# Altium integrated library TT_IntLib.IntLib: 57 symbols (part 1 of 2)
Pins are listed as number, name and electrical type; pins without a type are passive.

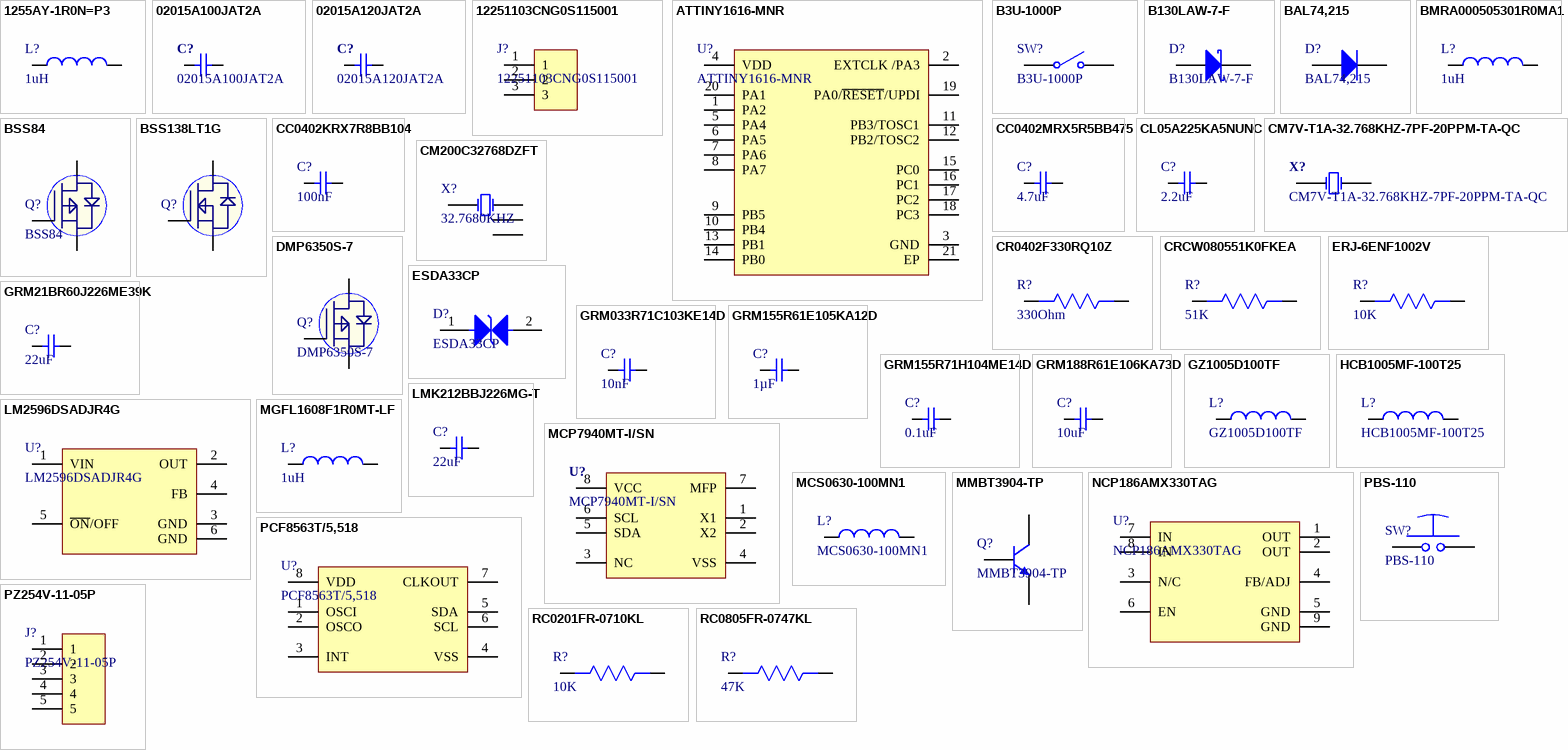
[diagram p0: symbols 1255AY-1R0N=P3 to RC0805FR-0747KL]

## 1255AY-1R0N=P3
designator L?, comment 1uH
FIXED IND 1UH 6.5A 10 MOHM SMD; Manufacturer: Murata; Manufacturer Part Number: 1255AY-1R0N=P3; Core Material: Ferrite; Current Rating: 9.5A; Shielding: Shielded; DC Resistance (DCR): 12mR; Test Frequency: 100kHz; Tolerance: 30%; Supplier 1: Digi-Key; RoHS: Yes; Category: Fixed Inductors; Stock 1: 492; Pricing 1: 1=0.42000, 10=0.36800, 25=0.34120, 50=0.28880, 100=0.26250, 250=0.24676, 500=0.22050 (USD); Mount: Surface Mount; Case/Package: Nonstandard; Packaging: Tape and Reel; Resistor Type: Wirewound; Inductance: 1uH; Max DC Current: 6.5A; Length: 0.248inch; Width: 0.248inch; Height - Seated (Max): 0.177inch; RoHS Compliant: Yes; ComponentLink1URL: http://www.farnell.com/datasheets/2616880.pdf?src-supplier=Farnell; ComponentLink1Description: http://www.farnell.com/datasheets/2616880.pdf?src-supplier=Farnell; ComponentLink2URL: http://search.murata.co.jp/Ceramy/image/img/P02/J(E)TE243B-0037_DG6045C_reference.pdf?src-supplier=Digi-Key; ComponentLink2Description: http://search.murata.co.jp/Ceramy/image/img/P02/J(E)TE243B-0037_DG6045C_reference.pdf?src-supplier=Digi-Key; ComponentLink3URL: http://www.toko.co.jp/products/pdf/inductors/dg6045c.pdf?src-supplier=Digi-Key; ComponentLink3Description: http://www.toko.co.jp/products/pdf/inductors/dg6045c.pdf?src-supplier=Digi-Key; ComponentLink4URL: http://www.toko.co.jp/products/pdf/inductors/dg6045c.pdf?src-supplier=Avnet; ComponentLink4Description: http://www.toko.co.jp/products/pdf/inductors/dg6045c.pdf?src-supplier=Avnet; Supplier Part Number 1: 490-10803-1-ND
footprint 1255AY-1R0N=P3 (FIXED IND 1UH 6.5A 10 MOHM SMD)
pins: 1, 2

## 02015A100JAT2A
designator C?
CAP CER 10PF 50V C0G/NP0 0201; Manufacturer: Kyocera AVX; Tolerance: 5%; Dielectric: C0G; Supplier 1: Digi-Key; Manufacturer Part Number: 02015A100JAT2A; Stock 1: 120846; Pricing 1: 1=0.1, 10=0.036, 50=0.0198, 100=0.0162, 500=0.01156, 1000=0.00908, 2500=0.00825, 5000=0.00759 (USD); Case/Package: 0201; Case Code (Imperial): 0201; Case Code (Metric): 0603; Min Operating Temperature: -55°C; Max Operating Temperature: 125°C; Capacitance: 10pF; Package Quantity: 15000; Voltage Rating (DC): 50V; Packaging: Tape and Reel; Termination: SMD/SMT; Length: 0.6mm; Width: 0.3mm; Height: 0.33mm; Depth: 0.3mm; ComponentLink1URL: http://www.mouser.com/ds/2/40/C0GNP0-Dielectric-951274.pdf?src-supplier=Mouser; ComponentLink1Description: http://www.mouser.com/ds/2/40/C0GNP0-Dielectric-951274.pdf?src-supplier=Mouser; Supplier Part Number 1: 478-13003-6-ND
footprint CAP 0201
pins: 1, 2

## 02015A120JAT2A
designator C?
CAP CER 12PF 50V C0G/NP0 0201; Manufacturer: Kyocera AVX; Tolerance: 5%; Dielectric: C0G; Supplier 1: Digi-Key; Manufacturer Part Number: 02015A120JAT2A; Stock 1: 53470; Pricing 1: 1=0.1, 10=0.036, 50=0.0198, 100=0.0162, 500=0.01156, 1000=0.00908, 2500=0.00825, 5000=0.00759 (USD); Case/Package: 0201; Min Operating Temperature: -55°C; Max Operating Temperature: 125°C; Capacitance: 12pF; Packaging: Tape and Reel; Package Quantity: 15000; Voltage Rating (DC): 50V; Length: 0.6mm; Depth: 0.3mm; ComponentLink1URL: http://www.mouser.com/ds/2/40/C0GNP0-Dielectric-951274.pdf?src-supplier=Mouser; ComponentLink1Description: http://www.mouser.com/ds/2/40/C0GNP0-Dielectric-951274.pdf?src-supplier=Mouser; ComponentLink2URL: http://components.arrow.com/part/dataview/0323_01156022?src-supplier=Arrow+Europe; ComponentLink2Description: http://components.arrow.com/part/dataview/0323_01156022?src-supplier=Arrow+Europe; Supplier Part Number 1: 478-13005-6-ND
footprint CAP 0201
pins: 1, 2

## 12251103CNG0S115001
designator J?
Pin Header 3 1 right-angle; Manufacturer: JILN; Package: Through Hole,P=2.54mm; Connector Type: Pin Header; Number of Pins: 3; Type: right-angle，180degrees; Contact Material: Brass
footprint 12251103CNG0S115001 (Pin Header 3 1 right-angle)
pins: 1, 2, 3

## ATTINY1616-MNR
designator U?
Microchip ATTINY1616-MNR, 8bit AVR Microcontroller, 20MHz, 16 kB Flash, 20-Pin VQFN; Interface: I2C,SPI,IrDA,UART,USART; Peripherals: Brown-out Detect/Reset,POR,PWM,WDT; Number of I/Os: 18; Memory Size: 16KB; Oscillator Type: Internal; Supplier 1: Digi-Key; Manufacturer: Microchip; Manufacturer Part Number: ATTINY1616-MNR; RoHS: No; Category: Microcontrollers; Stock 1: 3963; Pricing 1: 1=0.75000, 25=0.69000, 100=0.62000 (USD); Case/Package: VQFN; Min Operating Temperature: -40°C; Max Operating Temperature: 105°C; Memory Type: FLASH; Packaging: Cut Tape; Core Architecture: AVR; Frequency: 20MHz; ComponentLink1URL: http://www.microchip.com/mymicrochip/filehandler.aspx?ddocname=en606269&src-supplier=Digi-Key; ComponentLink1Description: http://www.microchip.com/mymicrochip/filehandler.aspx?ddocname=en606269&src-supplier=Digi-Key; Supplier Part Number 1: ATTINY1616-MNRCT-ND
footprint 20-QFN (IC MCU 8BIT 16KB FLASH 20VQFN)
pins: 1 PA2, 2 EXTCLK /PA3, 3 GND, 4 VDD, 5 PA4, 6 PA5, 7 PA6, 8 PA7, 9 PB5, 10 PB4, 11 PB3/TOSC1, 12 PB2/TOSC2, 13 PB1, 14 PB0, 15 PC0, 16 PC1, 17 PC2, 18 PC3, 19 PA0/~{RESET}/UPDI, 20 PA1, 21 EP

## B3U-1000P
designator SW?
SWITCH TACTILE SPST-NO 0.05A 12V; Manufacturer: Omron; Mechanical Life: 200000Cycles; Operating Force: 1.5N; Throw Configuration: SPST; Current Rating: 50mA; Contact Resistance: 100mR; Illumination Type: Non-Illuminated,Illuminated; Switch Travel: 0.15mm; Switch Function: Off-Mom; Actuator Type: Standard; Actuator Length: 0.4mm; Ratings: Dust Proof,IP40; ComponentLink1URL: http://www.farnell.com/datasheets/60838.pdf?src-supplier=Farnell; ComponentLink1Description: http://www.farnell.com/datasheets/60838.pdf?src-supplier=Farnell; ComponentLink2URL: http://www.farnell.com/datasheets/60838.pdf?src-supplier=Element14; ComponentLink2Description: http://www.farnell.com/datasheets/60838.pdf?src-supplier=Element14; ComponentLink3URL: https://omronfs.omron.com/en_US/ecb/products/pdf/en-b3u.pdf?src-supplier=Digi-Key; ComponentLink3Description: https://omronfs.omron.com/en_US/ecb/products/pdf/en-b3u.pdf?src-supplier=Digi-Key; ComponentLink4URL: http://www.omron.com/ecb/products/pdf/en-b3u.pdf?src-supplier=Digi-Key; ComponentLink4Description: http://www.omron.com/ecb/products/pdf/en-b3u.pdf?src-supplier=Digi-Key; ComponentLink5URL: https://www.distrelec.biz/Web/Downloads/he/et/B3U_eng_datasheet.pdf?mime=application%2Fpdf&src-supplier=Distrelec; ComponentLink5Description: https://www.distrelec.biz/Web/Downloads/he/et/B3U_eng_datasheet.pdf?mime=application%2Fpdf&src-supplier=Distrelec; ComponentLink6URL: http://www.onlinecomponents.com/productFiles/mf-OM/en-b3u.pdf?src-supplier=Onlinecomponents.com; ComponentLink6Description: http://www.onlinecomponents.com/productFiles/mf-OM/en-b3u.pdf?src-supplier=Onlinecomponents.com; Supplier 1: Digi-Key; Manufacturer Part Number: B3U-1000P; Stock 1: 116454; Pricing 1: 1=1, 10=0.961, 25=0.9064, 50=0.7976, 100=0.7251, 250=0.68888, 500=0.67074, 1000=0.52571 (USD); Mount: Surface Mount; Weight: 0.000776oz; Contact Material: Silver; Min Operating Temperature: -25°C; Max Operating Temperature: 70°C; Packaging: Tape and Reel; Voltage Rating (DC): 12V; Package Quantity: 1; Max Current Rating: 50mA; Termination: SMD/SMT; Orientation: Straight; Max Voltage Rating (DC): 12V; Electrical Life: 200000Cycles; Insulation Resistance: 100MR; Contact Current Rating: 50mA; Length: 4mm; Height: 1.2mm; Depth: 2.5mm; Width: 3mm; REACH SVHC: Unknown; Lead Free: Lead Free; ComponentLink7URL: https://www.verical.com/server-webapp/html/getDatasheet?partID=552554&src-supplier=Verical; ComponentLink7Description: https://www.verical.com/server-webapp/html/getDatasheet?partID=552554&src-supplier=Verical; ComponentLink8URL: http://www.farnell.com/datasheets/1685550.pdf?src-supplier=Element14; ComponentLink8Description: http://www.farnell.com/datasheets/1685550.pdf?src-supplier=Element14; ComponentLink9URL: http://www.farnell.com/datasheets/2610940.pdf?src-supplier=Farnell; ComponentLink9Description: http://www.farnell.com/datasheets/2610940.pdf?src-supplier=Farnell; ComponentLink10URL: https://www.alliedelec.com/m/d/4c8a9ef82804fc3c241a13c1e298fd73.pdf?src-supplier=Allied+Electronics; ComponentLink10Description: https://www.alliedelec.com/m/d/4c8a9ef82804fc3c241a13c1e298fd73.pdf?src-supplier=Allied+Electronics; Supplier Part Number 1: SW1020DKR-ND
footprint B3U-1000P (SWITCH TACTILE SPST-NO 0.05A 12V)
pins: 1, 2

## B130LAW-7-F
designator D?
Diode Schottky 30V 1A 2-Pin SOD-123 T/R; Manufacturer: Diodes; Max Reverse Current: 1mA; Peak Non-Repetitive Surge Current: 12A; Element Configuration: Single; Forward Voltage: 420mV; Polarity: Standard; Capacitance: 40pF; Supplier 1: Digi-Key; Manufacturer Part Number: B130LAW-7-F; RoHS: Yes; Category: Schottky Diodes; Stock 1: 59409; Pricing 1: 1=0.48000, 10=0.33900, 100=0.17110, 500=0.15164, 1000=0.11800 (USD); Mount: Surface Mount; Number of Pins: 2; Weight: 0.000353oz; Contact Plating: Tin,Matte; Min Operating Temperature: -55°C; Max Operating Temperature: 125°C; Forward Current: 1A; Max Repetitive Reverse Voltage (Vrrm): 30V; Package Quantity: 3000; Packaging: Tape and Reel; Average Rectified Current: 1A; Max Forward Surge Current (Ifsm): 12A; Termination: SMD/SMT; Voltage Rating (DC): 30V; Current Rating: 1A; Output Current: 1A; Max Reverse Voltage (DC): 30V; Length: 2.85mm; Width: 1.7mm; Height: 1.25mm; Radiation Hardening: No; REACH SVHC: No SVHC; Lead Free: Lead Free; ComponentLink1URL: https://datasheet.ciiva.com/913/ds30308-913553.pdf?src-supplier=Digi-Key; ComponentLink1Description: https://datasheet.ciiva.com/913/ds30308-913553.pdf?src-supplier=Digi-Key; ComponentLink2URL: https://datasheet.ciiva.com/34302/1538689-34302354.pdf?src-supplier=Jameco; ComponentLink2Description: https://datasheet.ciiva.com/34302/1538689-34302354.pdf?src-supplier=Jameco; ComponentLink3URL: https://datasheet.ciiva.com/4715/ds30308-79347-4715540.pdf?src-supplier=Mouser; ComponentLink3Description: https://datasheet.ciiva.com/4715/ds30308-79347-4715540.pdf?src-supplier=Mouser; ComponentLink4URL: https://datasheet.ciiva.com/26788/b130law-7-f-26788586.pdf?src-supplier=IIIC; ComponentLink4Description: https://datasheet.ciiva.com/26788/b130law-7-f-26788586.pdf?src-supplier=IIIC; ComponentLink5URL: https://datasheet.ciiva.com/913/ds30308-913554.pdf?src-supplier=Digi-Key; ComponentLink5Description: https://datasheet.ciiva.com/913/ds30308-913554.pdf?src-supplier=Digi-Key; ComponentLink6URL: https://datasheet.ciiva.com/913/ds30308-913555.pdf?src-supplier=Digi-Key; ComponentLink6Description: https://datasheet.ciiva.com/913/ds30308-913555.pdf?src-supplier=Digi-Key; ComponentLink7URL: https://datasheet.ciiva.com/1177/ds30308-1177411.pdf?src-supplier=Element14; ComponentLink7Description: https://datasheet.ciiva.com/1177/ds30308-1177411.pdf?src-supplier=Element14; ComponentLink8URL: https://datasheet.ciiva.com/8300/ds30308-8300503.pdf?src-supplier=Avnet; ComponentLink8Description: https://datasheet.ciiva.com/8300/ds30308-8300503.pdf?src-supplier=Avnet; ComponentLink9URL: https://datasheet.ciiva.com/22695/887879-22695783.pdf?src-supplier=Element14; ComponentLink9Description: https://datasheet.ciiva.com/22695/887879-22695783.pdf?src-supplier=Element14; ComponentLink10URL: https://datasheet.ciiva.com/16563/ds30308-16563624.pdf?src-supplier=Avnet+Europe; ComponentLink10Description: https://datasheet.ciiva.com/16563/ds30308-16563624.pdf?src-supplier=Avnet+Europe; ComponentLink11URL: https://datasheet.ciiva.com/8303/ds30308-8303245.pdf?src-supplier=Avnet; ComponentLink11Description: https://datasheet.ciiva.com/8303/ds30308-8303245.pdf?src-supplier=Avnet; Supplier Part Number 1: B130LAW-FDICT-ND
footprint SOD123 (30V 1A 420mV @ 1A SOD-123)
pins: 1 K, 2 A

## BAL74,215
designator D?
DIODE GEN PURP 50V 215MA SOT23; Manufacturer: NXP Semiconductors; Manufacturer Part Number: BAL74215; Element Configuration: Single; Forward Current: 150mA; Max Reverse Current: 100nA; Reverse Recovery Time: 4ns; Peak Non-Repetitive Surge Current: 4A; Forward Voltage: 1.25V; Supplier 1: Newark; RoHS: Yes; Category: Rectifier Diodes; Mount: Surface Mount; Case/Package: TO-236-3; Number of Pins: 3; Contact Plating: Tin; Min Operating Temperature: -65°C; Max Operating Temperature: 150°C; Max Repetitive Reverse Voltage (Vrrm): 50V; Packaging: Tape and Reel; Max Surge Current: 4A; Recovery Time: 4ns; Package Quantity: 1; Max Reverse Leakage Current: 100nA; Average Rectified Current: 215mA; Max Forward Surge Current (Ifsm): 4A; Termination: SMD/SMT; Max Reverse Voltage (DC): 50V; Radiation Hardening: No; REACH SVHC: No SVHC; Lead Free: Lead Free; ComponentLink1URL: https://datasheet.ciiva.com/8299/bal74-8299264.pdf?src-supplier=Avnet; ComponentLink1Description: https://datasheet.ciiva.com/8299/bal74-8299264.pdf?src-supplier=Avnet; ComponentLink2URL: https://datasheet.ciiva.com/1179/453930-1179601.pdf?src-supplier=Element14; ComponentLink2Description: https://datasheet.ciiva.com/1179/453930-1179601.pdf?src-supplier=Element14; ComponentLink3URL: https://datasheet.ciiva.com/4434/bal74-109975-4434835.pdf?src-supplier=Mouser; ComponentLink3Description: https://datasheet.ciiva.com/4434/bal74-109975-4434835.pdf?src-supplier=Mouser; ComponentLink4URL: https://datasheet.ciiva.com/25953/bal74-25953738.pdf?src-supplier=Avnet+Europe; ComponentLink4Description: https://datasheet.ciiva.com/25953/bal74-25953738.pdf?src-supplier=Avnet+Europe; ComponentLink5URL: https://datasheet.ciiva.com/912/bal74-912156.pdf?src-supplier=Digi-Key; ComponentLink5Description: https://datasheet.ciiva.com/912/bal74-912156.pdf?src-supplier=Digi-Key; ComponentLink6URL: https://datasheet.ciiva.com/1202/453930-1202220.pdf?src-supplier=Farnell; ComponentLink6Description: https://datasheet.ciiva.com/1202/453930-1202220.pdf?src-supplier=Farnell; ComponentLink7URL: https://datasheet.ciiva.com/912/bal74-912157.pdf?src-supplier=Digi-Key; ComponentLink7Description: https://datasheet.ciiva.com/912/bal74-912157.pdf?src-supplier=Digi-Key; ComponentLink8URL: https://datasheet.ciiva.com/1202/453930-1202221.pdf?src-supplier=Farnell; ComponentLink8Description: https://datasheet.ciiva.com/1202/453930-1202221.pdf?src-supplier=Farnell; ComponentLink9URL: https://datasheet.ciiva.com/912/bal74-912158.pdf?src-supplier=Digi-Key; ComponentLink9Description: https://datasheet.ciiva.com/912/bal74-912158.pdf?src-supplier=Digi-Key; Supplier Part Number 1: 75R4923
footprint SOT23-3 (SOT23, 3-Leads, Body 2.9x1.3mm, Pitch 0.95mm, Lead Span 2.3mm - Reverse Pinning, IPC High Density)
pins: 1 K, 2 A

## BMRA000505301R0MA1
designator L?, comment 1uH
FIXED IND 1UH 7A 15 MOHM SMD; Manufacturer: Chilisin; Manufacturer Part Number: BMRA000505301R0MA1; Supplier 1: Digi-Key; RoHS: Yes; Supplier Part Number 1: 2184-BMRA000505301R0MA1CT-ND
footprint BMRA000505301R0MA1 (FIXED IND 1UH 7A 15 MOHM SMD)
pins: 1, 2

## BSS84
designator Q?
P-Channel -60V 300mA 2.5V @ 250uA 6Ω @ 0.2A,10V 350mW SOT-23 MOSFET RoHS; Manufacturer: HUASHUO; Package: SOT-23; FET Type: P-Channel; Drain to Source Voltage(Vdss): -60V; Continuous Drain Current (Id) @ 25°C: 300mA; Vgs(th) (Max) @ Id: 2.5V @ 250uA; Rds On (Max) @ Id, Vgs: 6Ω @ 0.2A,10V; Power Dissipation-Max (Ta=25°C): 350mW
footprint SOT23-3 (SOT23, 3-Leads, Body 2.9x1.3mm, Pitch 0.95mm, Lead Span 2.3mm - Reverse Pinning, IPC High Density)
pins: 1 G, 2 S, 3 D

## BSS138LT1G
designator Q?  (value not drawn)
MOSFET N-CH 50V 200MA SOT-23; Manufacturer: ON Semiconductor; Gate to Source Voltage (Vgs): 20V; Nominal Vgs: 1.5V; Rds On Max: 3.5R; Input Capacitance: 50pF; Number of Elements: 1; Max Power Dissipation: 225mW; Turn-Off Delay Time: 20ns; Element Configuration: Single; ComponentLink1URL: https://datasheet.ciiva.com/22641/1596366-22641636.pdf; ComponentLink1Description: https://datasheet.ciiva.com/22641/1596366-22641636.pdf; ComponentLink2URL: https://datasheet.ciiva.com/1190/1596366-1190137.pdf; ComponentLink2Description: https://datasheet.ciiva.com/1190/1596366-1190137.pdf; ComponentLink3URL: https://datasheet.ciiva.com/15198/getdatasheetpartid-110266-15198908.pdf; ComponentLink3Description: https://datasheet.ciiva.com/15198/getdatasheetpartid-110266-15198908.pdf; ComponentLink4URL: https://datasheet.ciiva.com/8115/bss138lt1-d-8115295.pdf; ComponentLink4Description: https://datasheet.ciiva.com/8115/bss138lt1-d-8115295.pdf; ComponentLink5URL: https://datasheet.ciiva.com/8115/bss138lt1-d-8115358.pdf; ComponentLink5Description: https://datasheet.ciiva.com/8115/bss138lt1-d-8115358.pdf; ComponentLink6URL: https://datasheet.ciiva.com/1190/1596366-1190136.pdf; ComponentLink6Description: https://datasheet.ciiva.com/1190/1596366-1190136.pdf; ComponentLink7URL: https://datasheet.ciiva.com/936/bss138lt1-d-936802.pdf; ComponentLink7Description: https://datasheet.ciiva.com/936/bss138lt1-d-936802.pdf; ComponentLink8URL: https://datasheet.ciiva.com/936/bss138lt1-d-936801.pdf; ComponentLink8Description: https://datasheet.ciiva.com/936/bss138lt1-d-936801.pdf; ComponentLink9URL: https://datasheet.ciiva.com/14553/70099493-14553829.pdf; ComponentLink9Description: https://datasheet.ciiva.com/14553/70099493-14553829.pdf; ComponentLink10URL: https://datasheet.ciiva.com/936/bss138lt1-d-936803.pdf; ComponentLink10Description: https://datasheet.ciiva.com/936/bss138lt1-d-936803.pdf; Supplier 1: Digi-Key; Manufacturer Part Number: BSS138LT1G; Stock 1: 1283212; Pricing 1: 1=0.27, 10=0.222, 100=0.1177, 500=0.07746, 1000=0.05267 (USD); Case/Package: SOT-23-3; Number of Pins: 3; Contact Plating: Tin,Matte; Min Operating Temperature: -55°C; Max Operating Temperature: 150°C; Continuous Drain Current (ID): 200mA; Package Quantity: 1; Packaging: Tape and Reel; Drain to Source Breakdown Voltage: 50V; Power Dissipation: 225mW; Drain to Source Resistance: 3.5R; Threshold Voltage: 1.5V; Turn-On Delay Time: 20ns; Voltage Rating (DC): 50V; Current Rating: 200mA; On-State Resistance: 3.5R; Length: 3.04mm; Height: 1.01mm; Width: 1.4mm; Radiation Hardening: No; REACH SVHC: No SVHC; Lead Free: Lead Free; Halogen Free: Halogen Free; ComponentLink11URL: http://www.onsemi.com/pub/Collateral/BSS138LT1-D.PDF?src-supplier=Digi-Key; ComponentLink11Description: http://www.onsemi.com/pub/Collateral/BSS138LT1-D.PDF?src-supplier=Digi-Key; ComponentLink12URL: http://www.farnell.com/datasheets/1596366.pdf?src-supplier=Element14; ComponentLink12Description: http://www.farnell.com/datasheets/1596366.pdf?src-supplier=Element14; ComponentLink13URL: http://www.alliedelec.com/m/d/b3c6fd7d92596813fe75d33dcbaaae90.pdf?src-supplier=Allied+Electronics; ComponentLink13Description: http://www.alliedelec.com/m/d/b3c6fd7d92596813fe75d33dcbaaae90.pdf?src-supplier=Allied+Electronics; ComponentLink14URL: https://www.verical.com/server-webapp/html/getDatasheet?partID=110266&src-supplier=Verical; ComponentLink14Description: https://www.verical.com/server-webapp/html/getDatasheet?partID=110266&src-supplier=Verical; ComponentLink15URL: http://www.onsemi.com/pub_link/Collateral/BSS138LT1-D.PDF?src-supplier=Avnet; ComponentLink15Description: http://www.onsemi.com/pub_link/Collateral/BSS138LT1-D.PDF?src-supplier=Avnet; Supplier Part Number 1: BSS138LT1GOSDKR-ND
footprint SOT23-3 (SOT23, 3-Leads, Body 2.9x1.3mm, Pitch 0.95mm, Lead Span 2.3mm - Reverse Pinning, IPC High Density)
pins: 1 G, 2 S, 3 D

## CC0402KRX7R8BB104
designator C?, comment 100nF
Cap Ceramic 0.1uF 25V X7R 10% SMD 0402 125C Paper T/R; Manufacturer: Yageo; Manufacturer Part Number: CC0402KRX7R8BB104; Dissipation Factor: 3.5%; Supplier 1: Digi-Key; RoHS: Yes; Category: Ceramic Capacitors; Stock 1: 1841009; Pricing 1: 1=0.10000, 10=0.03100, 50=0.01700, 100=0.01390, 500=0.00990, 1000=0.00777, 2500=0.00707, 5000=0.00650 (USD); Mount: Surface Mount; Case/Package: 0402; Case Code (Imperial): 0402; Case Code (Metric): 1005; Min Operating Temperature: -55°C; Max Operating Temperature: 125°C; Tolerance: 10%; Capacitance: 100nF; Dielectric: X7R; Voltage Rating: 25V; Voltage Rating (DC): 25V; Packaging: Tape and Reel; Termination: SMD/SMT; Resistor Type: Ceramic; Length: 1mm; Width: 0.02inch; Height: 0.5mm; Thickness: 0.022inch; Depth: 0.5mm; Radiation Hardening: No; Lead Free: Lead Free; Halogen Free: Halogen Free; ComponentLink1URL: https://datasheet.ciiva.com/11464/upy-gphc-x7r-6-3v-to-50v-8-11464889.pdf?src-supplier=Avnet; ComponentLink1Description: https://datasheet.ciiva.com/11464/upy-gphc-x7r-6-3v-to-50v-8-11464889.pdf?src-supplier=Avnet; ComponentLink2URL: https://datasheet.ciiva.com/13210/upy-gphc-x7r-6-3v-to-50v-8-12304-13210908.pdf?src-supplier=Mouser; ComponentLink2Description: https://datasheet.ciiva.com/13210/upy-gphc-x7r-6-3v-to-50v-8-12304-13210908.pdf?src-supplier=Mouser; ComponentLink3URL: https://datasheet.ciiva.com/17437/upy-gphc-x7r-6-3v-to-50v-8-17437357.pdf?src-supplier=Avnet+Europe; ComponentLink3Description: https://datasheet.ciiva.com/17437/upy-gphc-x7r-6-3v-to-50v-8-17437357.pdf?src-supplier=Avnet+Europe; Supplier Part Number 1: 311-2077-1-ND
footprint Cap0402
pins: 1, 2

## CC0402MRX5R5BB475
designator C?, comment 4.7uF
Multilayer Ceramic Capacitors MLCC - SMD/SMT 4.7uF 6.3V 0402 RoHS; Manufacturer: Yageo; Manufacturer Part Number: CC0402MRX5R5BB475; Tolerance: 20%; Dielectric: X5R; Voltage: 4V; Supplier 1: Digi-Key; RoHS: Yes; Category: Ceramic Capacitors; Stock 1: 47905; Pricing 1: 1=0.18000, 10=0.12400, 50=0.07460, 100=0.06300, 500=0.04308, 1000=0.03810, 2500=0.03644, 5000=0.03313 (USD); Mount: Surface Mount; Case/Package: 0402; Case Code (Imperial): 0402; Case Code (Metric): 1005; Weight: 2.3E-05oz; Min Operating Temperature: -55°C; Max Operating Temperature: 85°C; Capacitance: 4.7uF; Voltage Rating (DC): 6.3V; Packaging: Tape and Reel; Voltage Rating: 6.3V; Termination: SMD/SMT; Resistor Type: Ceramic; Length: 1mm; Width: 0.02inch; Height: 0.5mm; Thickness: 0.022inch; Depth: 0.5mm; Radiation Hardening: No; Lead Free: Lead Free; Halogen Free: Halogen Free; ComponentLink1URL: http://components.arrow.com/part/dataview/0323_04166410?src-supplier=Arrow+Europe; ComponentLink1Description: http://components.arrow.com/part/dataview/0323_04166410?src-supplier=Arrow+Europe; ComponentLink2URL: http://www.mouser.com/ds/2/447/UPY-GPHC_X5R_4V-to-50V_25-1131599.pdf?src-supplier=Mouser; ComponentLink2Description: http://www.mouser.com/ds/2/447/UPY-GPHC_X5R_4V-to-50V_25-1131599.pdf?src-supplier=Mouser; ComponentLink3URL: http://www.yageo.com/documents/recent/UPY-GPHC_X5R_4V-to-50V_25.pdf?src-supplier=Digi-Key; ComponentLink3Description: http://www.yageo.com/documents/recent/UPY-GPHC_X5R_4V-to-50V_25.pdf?src-supplier=Digi-Key; ComponentLink4URL: http://www.yageo.com/documents/recent/UPY-GPHC_X5R_4V-to-50V_12.pdf?src-supplier=Avnet; ComponentLink4Description: http://www.yageo.com/documents/recent/UPY-GPHC_X5R_4V-to-50V_12.pdf?src-supplier=Avnet; ComponentLink5URL: http://www.yageo.com/documents/recent/UPY-GPHC_X5R_4V-to-50V_12.pdf?src-supplier=Avnet+Europe; ComponentLink5Description: http://www.yageo.com/documents/recent/UPY-GPHC_X5R_4V-to-50V_12.pdf?src-supplier=Avnet+Europe; ComponentLink6URL: http://www.yageo.com/exep/pages/download/literatures/ProductSelectionGuide%202014_Final_2.pdf?src-supplier=Digi-Key; ComponentLink6Description: http://www.yageo.com/exep/pages/download/literatures/ProductSelectionGuide%202014_Final_2.pdf?src-supplier=Digi-Key; Supplier Part Number 1: 311-1730-1-ND
footprint Cap0402
pins: 1, 2

## CL05A225KA5NUNC
designator C?, comment 2.2uF
CAP CER 2.2UF 25V X5R 0402; Manufacturer: Samsung; Manufacturer Part Number: CL05A225KA5NUNC; Tolerance: 10%; Supplier 1: Digi-Key; RoHS: Yes; Category: Ceramic Capacitors; Stock 1: 10124; Pricing 1: 1=0.35000, 10=0.23700, 50=0.15820, 100=0.13440, 500=0.09488, 1000=0.08302, 2500=0.07907, 5000=0.07314 (USD); Mount: Surface Mount; Case/Package: 0402; Case Code (Metric): 1005; Case Code (Imperial): 0402; Min Operating Temperature: -55°C; Max Operating Temperature: 85°C; Package Quantity: 1; Packaging: Cut Tape; Capacitance: 2.2uF; Voltage Rating: 25V; Length: 0.039inch; Width: 0.02inch; Thickness: 0.022inch; ComponentLink1URL: https://datasheet.ciiva.com/25790/cl05a225ka5nunc-25790835.pdf?src-supplier=Digi-Key; ComponentLink1Description: https://datasheet.ciiva.com/25790/cl05a225ka5nunc-25790835.pdf?src-supplier=Digi-Key; Supplier Part Number 1: 1276-1460-1-ND
footprint Cap0402
pins: 1, 2

## CM7V-T1A-32.768KHZ-7PF-20PPM-TA-QC
designator X?
CRYSTAL 32.7680KHZ 7PF SMD; Manufacturer: Citizen; Manufacturer Part Number: CM315-32.768KDZY-UT; Frequency Tolerance: 20ppm; ESR (Equivalent Series Resistance): 70kR; Parameter 1: *; Supplier 1: Digi-Key; Stock 1: 0; Mount: Surface Mount; Case/Package: SMD/SMT; Number of Pins: 2; Min Operating Temperature: -40°C; Max Operating Temperature: 85°C; Frequency: 32.768kHz; Load Capacitance: 7pF; Packaging: Tape and Reel; Package Quantity: 3000; Termination: SMD/SMT; Series: CM315; Tolerance: 20ppm; Length: 0.126inch; Width: 0.059inch; Height: 0.035inch; Supplier Part Number 1: 300-8730-6-ND; Supplier 2: Digi-Key; Stock 2: 934; Pricing 2: 1=0.37, 10=0.31, 50=0.279, 100=0.248, 500=0.2356 (USD); Supplier Part Number 2: 2195-CM7V-T1A-32.768KHZ-7PF-20PPM-TA-QCDKR-ND
footprint CM7V-T1A-32.768KHZ-7PF-20PPM-TA-QC
pins: 1, 2

## CM200C32768DZFT
designator X?, comment 32.7680KHZ
CRYSTAL 32.7680KHZ 12.5PF SMD; Manufacturer: Citizen; Manufacturer Part Number: CM200C32768DZFT; ESR (Equivalent Series Resistance): 50kR; Frequency Tolerance: 20ppm; Frequency: 32.768kHz; Supplier 1: Mouser; RoHS: Yes; Category: Crystals; Stock 1: 1; Pricing 1: 1=0.57000, 10=0.47500, 50=0.42700, 100=0.38000, 1000=0.30400, 10000=0.25400 (USD); Mount: Surface Mount; Case/Package: SMD/SMT; Min Operating Temperature: -40°C; Max Operating Temperature: 85°C; Load Capacitance: 12.5pF; Packaging: Tape and Reel; Package Quantity: 3000; Lead Free: Lead Free; REACH SVHC: Unknown; ComponentLink1URL: https://datasheet.ciiva.com/13163/cm200c-citizen-187069-13163866.pdf?src-supplier=Mouser; ComponentLink1Description: https://datasheet.ciiva.com/13163/cm200c-citizen-187069-13163866.pdf?src-supplier=Mouser; ComponentLink2URL: https://datasheet.ciiva.com/16437/cm200c-250c-16437102.pdf?src-supplier=Future+Electronics; ComponentLink2Description: https://datasheet.ciiva.com/16437/cm200c-250c-16437102.pdf?src-supplier=Future+Electronics; ComponentLink3URL: https://datasheet.ciiva.com/48778/1673496-48778901.pdf?src-supplier=Element14; ComponentLink3Description: https://datasheet.ciiva.com/48778/1673496-48778901.pdf?src-supplier=Element14; Supplier Part Number 1: 695-CM200C-32768DZFT
footprint CM200C32768DZFT (CRYSTAL 32.7680KHZ 12.5PF SMD)
pins: 1 OSC1, 2 OSC3, 3 OSC4, 4 OSC2

## CR0402F330RQ10Z
designator R?, comment 330Ohm
CRGP 0402 330R 1%; Manufacturer: Ever Ohms Tech; Manufacturer Part Number: CR0402F330RQ10Z; Touchscreen: Infrared (IR); Wavelength: 855nm; Forward Voltage: 2.2V; Viewing Angle: 130°; Max Power Dissipation: 125mW; Temperature Coefficient: 100ppm/°C; Supplier 1: Digi-Key; Stock 1: 82508; Pricing 1: 1=0.1, 10=0.092, 100=0.0356, 1000=0.01564, 2500=0.01351, 5000=0.01209 (USD); Mount: Surface Mount; Case/Package: SMD/SMT; Case Code (Imperial): 0402; Case Code (Metric): 1005; Min Operating Temperature: -40°C; Max Operating Temperature: 155°C; Composition: Thick Film; Packaging: Tape and Reel; Orientation: Top View; Resistance: 330R; Tolerance: 1%; Number of Terminations: 2; ComponentLink1URL: https://www.te.com/commerce/DocumentDelivery/DDEController?Action=srchrtrv&amp;DocNm=9-1773463-9&amp;DocType=DS&amp;DocLang=English&src-supplier=Digi-Key; ComponentLink1Description: https://www.te.com/commerce/DocumentDelivery/DDEController?Action=srchrtrv&amp;DocNm=9-1773463-9&amp;DocType=DS&amp;DocLang=English&src-supplier=Digi-Key; Supplier Part Number 1: A130349DKR-ND
footprint Res0402
pins: 1, 2

## CRCW080551K0FKEA
designator R?, comment 51K
Res Thick Film 0805 51K Ohm 1% 1/8W 100ppm/C Molded SMD SMD Paper T/R; Manufacturer: Vishay; Manufacturer Part Number: CRCW080551K0FKEA; Resistance: 51kR; Temperature Coefficient: 100ppm/°C; Max Power Dissipation: 125mW; Voltage Rating: 150V; Supplier 1: Digi-Key; RoHS: Yes; Category: Chip SMD Resistors; Stock 1: 1651; Pricing 1: 1=0.10000, 10=0.06300, 100=0.02540, 1000=0.01143, 2500=0.00992 (USD); Case/Package: 0805; Number of Pins: 2; Contact Plating: Tin; Weight: 0.000194oz; Case Code (Imperial): 0805; Case Code (Metric): 2012; Size Code: 0805; Min Operating Temperature: -55°C; Max Operating Temperature: 155°C; Tolerance: 1%; Packaging: Tape and Reel; Resistor Type: Thick Film; Number of Terminations: 2; Power Rating: 125mW; Package Quantity: 1; Termination: SMD/SMT; Features: Automotive AEC-Q200; Series: CRCW; Voltage Rating (DC): 150V; Technology: THICK FILM; Construction: Rectangular; Resistance Tolerance: 1%; Length: 2mm; Width: 1.25mm; Height: 0.45mm; Depth: 1.25mm; Radiation Hardening: No; RoHS Compliant: Yes; Lead Free: Lead Free; REACH SVHC: Unknown; Military Standard: Not; ComponentLink1URL: https://datasheet.ciiva.com/11810/0900766b80d98b26-11810385.pdf?src-supplier=RSComponents; ComponentLink1Description: https://datasheet.ciiva.com/11810/0900766b80d98b26-11810385.pdf?src-supplier=RSComponents; ComponentLink2URL: https://datasheet.ciiva.com/5552/dcrcwe3-109170-5552438.pdf?src-supplier=Mouser; ComponentLink2Description: https://datasheet.ciiva.com/5552/dcrcwe3-109170-5552438.pdf?src-supplier=Mouser; ComponentLink3URL: https://datasheet.ciiva.com/9002/dcrcwe3-9002744.pdf?src-supplier=Avnet; ComponentLink3Description: https://datasheet.ciiva.com/9002/dcrcwe3-9002744.pdf?src-supplier=Avnet; ComponentLink4URL: https://datasheet.ciiva.com/16758/70201119-16758536.pdf?src-supplier=Allied+Electronics; ComponentLink4Description: https://datasheet.ciiva.com/16758/70201119-16758536.pdf?src-supplier=Allied+Electronics; ComponentLink5URL: https://datasheet.ciiva.com/22871/70201119-22871784.pdf?src-supplier=Allied+Electronics; ComponentLink5Description: https://datasheet.ciiva.com/22871/70201119-22871784.pdf?src-supplier=Allied+Electronics; ComponentLink6URL: https://datasheet.ciiva.com/26314/fld-crcw-e3-data-en-26314585.pdf?src-supplier=Distrelec; ComponentLink6Description: https://datasheet.ciiva.com/26314/fld-crcw-e3-data-en-26314585.pdf?src-supplier=Distrelec; ComponentLink7URL: https://datasheet.ciiva.com/2525/dcrcwe3-2525851.pdf?src-supplier=Digi-Key; ComponentLink7Description: https://datasheet.ciiva.com/2525/dcrcwe3-2525851.pdf?src-supplier=Digi-Key; ComponentLink8URL: https://datasheet.ciiva.com/2525/dcrcwe3-2525852.pdf?src-supplier=Digi-Key; ComponentLink8Description: https://datasheet.ciiva.com/2525/dcrcwe3-2525852.pdf?src-supplier=Digi-Key; ComponentLink9URL: https://datasheet.ciiva.com/2525/dcrcwe3-2525853.pdf?src-supplier=Digi-Key; ComponentLink9Description: https://datasheet.ciiva.com/2525/dcrcwe3-2525853.pdf?src-supplier=Digi-Key; ComponentLink10URL: https://datasheet.ciiva.com/7673/1697337-7673357.pdf?src-supplier=Element14; ComponentLink10Description: https://datasheet.ciiva.com/7673/1697337-7673357.pdf?src-supplier=Element14; ComponentLink11URL: https://datasheet.ciiva.com/16852/dcrcwe3-16852399.pdf?src-supplier=Avnet+Europe; ComponentLink11Description: https://datasheet.ciiva.com/16852/dcrcwe3-16852399.pdf?src-supplier=Avnet+Europe; Supplier Part Number 1: 541-51.0KCCT-ND
footprint RES 0805 (SMD 0805)
pins: 1, 2

## DMP6350S-7
designator Q?
MOSFET P-CHA 60V 720MW SOT23; Manufacturer: Diodes; Continuous Drain Current (ID): 1.5A; Rds On Max: 350mR; Input Capacitance: 206pF; Supplier 1: Digi-Key; Manufacturer Part Number: DMP6350S-7; Stock 1: 30890; Pricing 1: 1=0.41, 10=0.355, 25=0.3316, 100=0.2463, 500=0.19232, 1000=0.15632 (USD); Mount: Surface Mount; Case/Package: TO-236-3; Min Operating Temperature: -55°C; Max Operating Temperature: 150°C; Packaging: Tape and Reel; Drain to Source Voltage (Vdss): 60V; Max Power Dissipation: 720mW; ComponentLink1URL: http://www.farnell.com/datasheets/2814435.pdf?src-supplier=Newark; ComponentLink1Description: http://www.farnell.com/datasheets/2814435.pdf?src-supplier=Newark; ComponentLink2URL: http://www.farnell.com/datasheets/2814435.pdf?src-supplier=Farnell; ComponentLink2Description: http://www.farnell.com/datasheets/2814435.pdf?src-supplier=Farnell; ComponentLink3URL: https://www.diodes.com/assets/Datasheets/DMP6350S.pdf?src-supplier=Digi-Key; ComponentLink3Description: https://www.diodes.com/assets/Datasheets/DMP6350S.pdf?src-supplier=Digi-Key; ComponentLink4URL: http://www.farnell.com/datasheets/2814435.pdf?src-supplier=Element14; ComponentLink4Description: http://www.farnell.com/datasheets/2814435.pdf?src-supplier=Element14; Supplier Part Number 1: DMP6350S-7DICT-ND
footprint SOT23-3 (SOT23, 3-Leads, Body 2.9x1.3mm, Pitch 0.95mm, Lead Span 2.3mm - Reverse Pinning, IPC High Density)
pins: 1 G, 2 S, 3 D

## ERJ-6ENF1002V
designator R?, comment 10K
PANASONIC - ERJ6ENF1002V - Ytmonterat chipmotstånd, Tjockfilm, 0805 [2012 Metrisk], 10 kohm, ERJ6E Serien, 150 V, Tjockfilm; Manufacturer Part Number: ERJ-6ENF1002V; Resistance: 10kR; Tolerance: 1%; Temperature Coefficient: 100ppm/°C; Power Rating: 125mW; Voltage Rating: 150V; Supplier 1: Digi-Key; Manufacturer: Panasonic; RoHS: Yes; Category: Chip SMD Resistors; Stock 1: 296629; Pricing 1: 1=0.10000, 10=0.07200, 100=0.02750, 1000=0.01210, 2500=0.01045 (USD); Mount: Surface Mount; Case/Package: 0805; Number of Pins: 2; Case Code (Metric): 2012; Case Code (Imperial): 0805; Contact Plating: Tin; Min Operating Temperature: -55°C; Max Operating Temperature: 155°C; Packaging: Tape and Reel; Resistor Type: Thick Film; Package Quantity: 5000; Number of Terminations: 2; Termination: SMD/SMT; Max Power Dissipation: 125mW; Voltage Rating (DC): 150V; Series: ERJ; Working Voltage: 150V; Features: Automotive AEC-Q200; Construction: Rectangular; Technology: THICK FILM; Resistance Tolerance: 1%; Length: 2mm; Width: 0.049inch; Height: 0.6mm; Depth: 1.25mm; Radiation Hardening: No; Lead Free: Lead Free; REACH SVHC: No SVHC; RoHS Compliant: Yes; Military Standard: Not; ComponentLink1URL: https://datasheet.ciiva.com/11808/0900766b80f80784-11808080.pdf?src-supplier=RSComponents; ComponentLink1Description: https://datasheet.ciiva.com/11808/0900766b80f80784-11808080.pdf?src-supplier=RSComponents; ComponentLink2URL: https://datasheet.ciiva.com/16514/aoa0000ce2-16514021.pdf?src-supplier=Avnet+Asia; ComponentLink2Description: https://datasheet.ciiva.com/16514/aoa0000ce2-16514021.pdf?src-supplier=Avnet+Asia; ComponentLink3URL: https://datasheet.ciiva.com/27055/1988971-27055733.pdf?src-supplier=Jameco; ComponentLink3Description: https://datasheet.ciiva.com/27055/1988971-27055733.pdf?src-supplier=Jameco; ComponentLink4URL: https://datasheet.ciiva.com/16759/70260748-16759350.pdf?src-supplier=Allied+Electronics; ComponentLink4Description: https://datasheet.ciiva.com/16759/70260748-16759350.pdf?src-supplier=Allied+Electronics; ComponentLink5URL: https://datasheet.ciiva.com/16725/70260748-16725031.pdf?src-supplier=Allied+Electronics; ComponentLink5Description: https://datasheet.ciiva.com/16725/70260748-16725031.pdf?src-supplier=Allied+Electronics; ComponentLink6URL: https://datasheet.ciiva.com/7830/426256-7830745.pdf?src-supplier=Element14; ComponentLink6Description: https://datasheet.ciiva.com/7830/426256-7830745.pdf?src-supplier=Element14; ComponentLink7URL: https://datasheet.ciiva.com/46372/1678782-46372714.pdf?src-supplier=Element14; ComponentLink7Description: https://datasheet.ciiva.com/46372/1678782-46372714.pdf?src-supplier=Element14; ComponentLink8URL: https://datasheet.ciiva.com/46372/1678782-46372715.pdf?src-supplier=Element14; ComponentLink8Description: https://datasheet.ciiva.com/46372/1678782-46372715.pdf?src-supplier=Element14; ComponentLink9URL: https://datasheet.ciiva.com/17212/aoa0000ce2-17212108.pdf?src-supplier=Avnet+Europe; ComponentLink9Description: https://datasheet.ciiva.com/17212/aoa0000ce2-17212108.pdf?src-supplier=Avnet+Europe; ComponentLink10URL: https://datasheet.ciiva.com/30140/aoa0000ce2-30140236.pdf?src-supplier=Onlinecomponents.com; ComponentLink10Description: https://datasheet.ciiva.com/30140/aoa0000ce2-30140236.pdf?src-supplier=Onlinecomponents.com; ComponentLink11URL: https://datasheet.ciiva.com/24070/aoa0000ce2-24070702.pdf?src-supplier=Mouser; ComponentLink11Description: https://datasheet.ciiva.com/24070/aoa0000ce2-24070702.pdf?src-supplier=Mouser; Supplier Part Number 1: P10.0KCCT-ND
footprint RES 0805 (SMD 0805)
pins: 1, 2

## ESDA33CP
designator D?
TVS DIODE 3.3V SOD882; Manufacturer: Leiditech; Polarity: Bidirectional; Voltage - Breakdown (Min): 5V; Voltage - Clamping (Max) @ Ipp: 14.1V; Current - Peak Pulse (10/1000μs): 11.2A; ComponentLink1Description: LCSC; ComponentLink1URL: https://lcsc.com/product-detail/TVS_Leiditech-ESDA33CP_C384838.html; Voltage - Reverse Standoff (Typ): 3.3V
footprint SOD882 (ESD PROTECTION DIODE)
pins: 1, 2

## GRM21BR60J226ME39K
designator C?, comment 22uF
Cap Ceramic 22uF 6.3V X5R 20% SMD 0805 85C Embossed T/R; Manufacturer: Murata; Manufacturer Part Number: GRM21BR60J226ME39K; Supplier 1: Digi-Key; RoHS: Yes; Category: Ceramic Capacitors; Stock 1: 70081; Pricing 1: 1=0.33000, 10=0.22500, 50=0.15020, 100=0.12770, 500=0.09012, 1000=0.07886, 2500=0.07511, 5000=0.06947 (USD); Mount: Surface Mount; Case/Package: 0805; Case Code (Metric): 2012; Case Code (Imperial): 0805; Min Operating Temperature: -55°C; Max Operating Temperature: 85°C; Package Quantity: 1; Capacitance: 22uF; Voltage Rating: 6.3V; Tolerance: 20%; Packaging: Tape and Reel; Voltage Rating (DC): 6.3V; Dielectric: X5R; Termination: SMD/SMT; Voltage: 6.3V; Series: GRM; Construction: Flat; Length: 2mm; Width: 0.049inch; Height: 1.25mm; Thickness: 0.053inch; Depth: 1.25mm; Radiation Hardening: No; Lead Free: Lead Free; RoHS Compliant: Yes; ComponentLink1URL: https://datasheet.ciiva.com/6270/partnumbering-e-01-6270375.pdf?src-supplier=Digi-Key; ComponentLink1Description: https://datasheet.ciiva.com/6270/partnumbering-e-01-6270375.pdf?src-supplier=Digi-Key; ComponentLink2URL: https://datasheet.ciiva.com/6270/partnumbering-e-01-6270377.pdf?src-supplier=Digi-Key; ComponentLink2Description: https://datasheet.ciiva.com/6270/partnumbering-e-01-6270377.pdf?src-supplier=Digi-Key; ComponentLink3URL: https://datasheet.ciiva.com/5413/product-5413083.pdf?src-supplier=Mouser; ComponentLink3Description: https://datasheet.ciiva.com/5413/product-5413083.pdf?src-supplier=Mouser; ComponentLink4URL: https://datasheet.ciiva.com/11607/product-11607325.pdf?src-supplier=Avnet; ComponentLink4Description: https://datasheet.ciiva.com/11607/product-11607325.pdf?src-supplier=Avnet; Supplier Part Number 1: 490-6471-1-ND
footprint CAP 0201
pins: 1, 2

## GRM033R71C103KE14D
designator C?, comment 10nF
CAP CER 10000PF 16V X7R 0201; Manufacturer: Murata; Manufacturer Part Number: GRM033R71C103KE14D; Tolerance: 10%; Supplier 1: Digi-Key; RoHS: Yes; Category: Ceramic Capacitors; Stock 1: 12651; Pricing 1: 1=0.10000, 10=0.01700, 50=0.00920, 100=0.00750, 500=0.00540, 1000=0.00424, 2500=0.00385, 5000=0.00354 (USD); Voltage Rating (DC): 16V; Dielectric: X7R; Capacitance: 10nF; Length: 600um; Width: 300um; Thickness: 300um; RoHS Compliant: Yes; ComponentLink1URL: http://www.farnell.com/datasheets/2867848.pdf?src-supplier=Farnell; ComponentLink1Description: http://www.farnell.com/datasheets/2867848.pdf?src-supplier=Farnell; ComponentLink2URL: http://search.murata.co.jp/Ceramy/image/img/A01X/G101/ENG/GRM033R71C103KE14-01.pdf?src-supplier=Digi-Key; ComponentLink2Description: http://search.murata.co.jp/Ceramy/image/img/A01X/G101/ENG/GRM033R71C103KE14-01.pdf?src-supplier=Digi-Key; ComponentLink3URL: http://www.farnell.com/datasheets/2867848.pdf?src-supplier=Newark; ComponentLink3Description: http://www.farnell.com/datasheets/2867848.pdf?src-supplier=Newark; ComponentLink4URL: http://www.farnell.com/datasheets/2722745.pdf?src-supplier=Element14; ComponentLink4Description: http://www.farnell.com/datasheets/2722745.pdf?src-supplier=Element14; Supplier Part Number 1: 490-14453-1-ND
footprint CAP 0201
pins: 1, 2

## GRM155R61E105KA12D
designator C?, comment 1µF
MURATA - GRM155R61E105KA12D - SMD Multilayer Ceramic Capacitor, 1 µF, 25 V, 0402 [1005 Metric], ± 10%, X5R, GRM Series; Capacitance: 1uF; Voltage Rating: 25V; Supplier 1: Digi-Key; Manufacturer: Murata; Manufacturer Part Number: GRM155R61E105KA12D; RoHS: Yes; Category: Ceramic Capacitors; Stock 1: 961231; Pricing 1: 1=0.11000, 10=0.08000, 50=0.04360, 100=0.03560, 500=0.02542, 1000=0.01997, 2500=0.01815, 5000=0.01670 (USD); Mount: Surface Mount; Case/Package: 0402; Case Code (Metric): 1005; Case Code (Imperial): 0402; Material: Ceramic; Weight: 0.000212oz; Min Operating Temperature: -55°C; Max Operating Temperature: 85°C; Tolerance: 10%; Packaging: Tape and Reel; Dielectric: X5R; Voltage: 25V; Termination: SMD/SMT; Voltage Rating (DC): 25V; Package Quantity: 10000; Series: GRM; Length: 1mm; Width: 0.5mm; Height: 0.5mm; Thickness: 0.022inch; Depth: 0.5mm; REACH SVHC: No SVHC; Lead Free: Lead Free; ComponentLink1URL: https://datasheet.ciiva.com/22732/1666664-22732122.pdf?src-supplier=Element14; ComponentLink1Description: https://datasheet.ciiva.com/22732/1666664-22732122.pdf?src-supplier=Element14; ComponentLink2URL: https://datasheet.ciiva.com/7719/1666664-7719006.pdf?src-supplier=Element14; ComponentLink2Description: https://datasheet.ciiva.com/7719/1666664-7719006.pdf?src-supplier=Element14; Supplier Part Number 1: 490-10017-1-ND
footprint Cap0402
pins: 1, 2

## GRM155R71H104ME14D
designator C?, comment 0.1uF
0402 0.1 uF 50 V ±20% Tolerance X7R SMT Monolithic Ceramic Chip Capacitor; Manufacturer: Murata; Manufacturer Part Number: GRM155R71H104ME14D; Voltage Rating: 50V; Capacitance: 100nF; Supplier 1: Digi-Key; RoHS: Yes; Category: Ceramic Capacitors; Stock 1: 2293; Pricing 1: 1=0.10000, 10=0.03300, 50=0.01780, 100=0.01460, 500=0.01040, 1000=0.00817, 2500=0.00742, 5000=0.00683 (USD); Mount: Surface Mount; Case/Package: 0402; Min Operating Temperature: -55°C; Max Operating Temperature: 125°C; Tolerance: 20%; Packaging: Cut Tape; Length: 0.039inch; Width: 0.02inch; Thickness: 0.022inch; ComponentLink1URL: http://www.mouser.com/ds/2/281/c02e-2905.pdf?src-supplier=Mouser; ComponentLink1Description: http://www.mouser.com/ds/2/281/c02e-2905.pdf?src-supplier=Mouser; ComponentLink2URL: http://components.arrow.com/part/dataview/0323_07177683?src-supplier=Arrow+Europe; ComponentLink2Description: http://components.arrow.com/part/dataview/0323_07177683?src-supplier=Arrow+Europe; ComponentLink3URL: http://search.murata.co.jp/Ceramy/image/img/A01X/G101/ENG/GRM155R71H104ME14-01.pdf?src-supplier=Digi-Key; ComponentLink3Description: http://search.murata.co.jp/Ceramy/image/img/A01X/G101/ENG/GRM155R71H104ME14-01.pdf?src-supplier=Digi-Key; ComponentLink4URL: http://psearch.en.murata.com/capacitor/product/GRM155R71H104ME14%23.pdf?src-supplier=Avnet; ComponentLink4Description: http://psearch.en.murata.com/capacitor/product/GRM155R71H104ME14%23.pdf?src-supplier=Avnet; Supplier Part Number 1: 490-10701-1-ND
footprint Cap0402
pins: 1, 2

## GRM188R61E106KA73D
designator C?, comment 10uF
CAP CER 10UF 25V X5R 0603; Manufacturer: Murata; Manufacturer Part Number: GRM188R61E106KA73D; Supplier 1: Mouser; RoHS: Yes; Category: Ceramic Capacitors; Stock 1: 319428; Pricing 1: 1=0.36000, 10=0.25800, 50=0.25800, 100=0.15500, 1000=0.09800, 10000=0.06900 (USD); Case/Package: 0603; RoHS Compliant: Yes; ComponentLink1URL: https://search.murata.co.jp/Ceramy/image/img/A01X/G101/ENG/GRM188R61E106KA73-01.pdf?src-supplier=Digi-Key; ComponentLink1Description: https://search.murata.co.jp/Ceramy/image/img/A01X/G101/ENG/GRM188R61E106KA73-01.pdf?src-supplier=Digi-Key; Supplier Part Number 1: 81-GRM188R61E106KA3D
footprint Cap0603
pins: 1, 2

## GZ1005D100TF
designator L?
10Ω @ 100MHz 500mA 1 50mΩ 0402 Ferrite Beads RoHS; Manufacturer: Sunlord; Value: Custom; Manufacturer Part No: GZ1005D100TF; Package: 0402
footprint IND 0402 (1005 Metric) (FIXED IND 20NH 350MA 600 MOHM)
pins: 1, 2

## HCB1005MF-100T25
designator L?
10Ω @ 100MHz 2.5A 1 50mΩ 0402 Ferrite Beads RoHS; Manufacturer: TAI-TECH; Number of Lines: 1; Package: 0402; Current Rating (Max): 2.5A; Current Rating (Max): 10Ω @ 100MHz; DC Resistance (DCR) (Max): 50mΩ
footprint HCB1005MF-100T25 (10O @ 100MHz 2.5A 1 50mO 0402 Ferrite Beads RoHS)
pins: 1, 2

## LM2596DSADJR4G
designator U?
Sw. Regulator 3A Adj. Step-Down D2PAK-5; Manufacturer: ON Semiconductor; Number of Outputs: 1; Max Input Voltage: 40V; Min Input Voltage: 4.5V; Output Voltage: 37V; Efficiency: 73%; Switching Frequency: 150kHz; Synchronous Rectifier: No; Min Output Voltage: 1.23V; Topology: Buck-Boost; Output Type: Adjustable; Supplier 1: Digi-Key; Manufacturer Part Number: LM2596DSADJR4G; RoHS: Yes; Category: Voltage Regulators - Switching; Stock 1: 3889; Pricing 1: 1=2.37000, 10=2.13200, 25=2.01120, 100=1.60910, 250=1.40796 (USD); Mount: Surface Mount; Case/Package: D2PAK; Number of Pins: 5; Min Operating Temperature: -40°C; Max Operating Temperature: 125°C; Max Output Current: 3A; Packaging: Tape and Reel; Output Current: 3A; Package Quantity: 800; Max Output Voltage: 37V; Operating Supply Voltage: 40V; Series: LM2596; Switching Frequency-Max: 150kHz; Length: 10.24mm; Width: 4.572mm; Height: 9.347mm; Radiation Hardening: No; REACH SVHC: No SVHC; Lead Free: Lead Free; Halogen Free: Halogen Free; RoHS Compliant: Yes; ComponentLink1URL: https://datasheet.ciiva.com/15113/getdatasheetpartid-224280-15113862.pdf?src-supplier=Verical; ComponentLink1Description: https://datasheet.ciiva.com/15113/getdatasheetpartid-224280-15113862.pdf?src-supplier=Verical; ComponentLink2URL: https://datasheet.ciiva.com/6603/lm2596-d-6603896.pdf?src-supplier=Digi-Key; ComponentLink2Description: https://datasheet.ciiva.com/6603/lm2596-d-6603896.pdf?src-supplier=Digi-Key; ComponentLink3URL: https://datasheet.ciiva.com/6603/lm2596-d-6603897.pdf?src-supplier=Digi-Key; ComponentLink3Description: https://datasheet.ciiva.com/6603/lm2596-d-6603897.pdf?src-supplier=Digi-Key; ComponentLink4URL: https://datasheet.ciiva.com/6603/lm2596-d-6603898.pdf?src-supplier=Digi-Key; ComponentLink4Description: https://datasheet.ciiva.com/6603/lm2596-d-6603898.pdf?src-supplier=Digi-Key; ComponentLink5URL: https://datasheet.ciiva.com/8270/lm2596-d-8270188.pdf?src-supplier=Avnet; ComponentLink5Description: https://datasheet.ciiva.com/8270/lm2596-d-8270188.pdf?src-supplier=Avnet; Supplier Part Number 1: LM2596DSADJR4GOSCT-ND
footprint D2PAK 5-Lead (IC REG MULT CONFG ADJ 3A D2PAK-5)
pins: 1 VIN, 2 OUT, 3 GND, 4 FB, 5 ~{ON}/OFF, 6 GND

## LMK212BBJ226MG-T
designator C?, comment 22uF
CAP ,MLCC ,0805,10V,X5R,22 F 20% ,T&R; Manufacturer: Taiyo Yuden; Manufacturer Part Number: LMK212BBJ226MG-T; Supplier 1: Digi-Key; RoHS: Yes; Category: Ceramic Capacitors; Stock 1: 37450; Pricing 1: 1=0.26000, 10=0.17900, 50=0.11920, 100=0.10140, 500=0.07154, 1000=0.06260 (USD); Mount: Surface Mount; Case/Package: 0805; Min Operating Temperature: -55°C; Max Operating Temperature: 85°C; Voltage: 10V; Dielectric: X5R; Capacitance: 22uF; Tolerance: 20%; Length: 2mm; Height: 1.25mm; Depth: 1.25mm; ComponentLink1URL: http://ds.yuden.co.jp/TYCOMPAS/ut/detail.do?productNo=LMK212BBJ226MG-T&fileName=LMK212BBJ226MG-T_SS&mode=specSheetDownload&src-supplier=Digi-Key; ComponentLink1Description: http://ds.yuden.co.jp/TYCOMPAS/ut/detail.do?productNo=LMK212BBJ226MG-T&fileName=LMK212BBJ226MG-T_SS&mode=specSheetDownload&src-supplier=Digi-Key; ComponentLink2URL: https://ds.yuden.co.jp/TYCOMPAS/ut/detail?pn=LMK212BBJ226MG-T &amp;u=M&src-supplier=Digi-Key; ComponentLink2Description: https://ds.yuden.co.jp/TYCOMPAS/ut/detail?pn=LMK212BBJ226MG-T &amp;u=M&src-supplier=Digi-Key; Supplier Part Number 1: 587-5464-1-ND
footprint Cap0805 (SMD 0805)
pins: 1, 2

## MCP7940MT-I/SN
designator U?
IC RTC CLK/CALENDAR I2C 8-SOIC; Manufacturer: Microchip; Max Supply Voltage: 5.5V; Min Supply Voltage: 1.8V; Interface: I2C,Serial,2-Wire; Memory Size: 64B; Logic Function: Clock; Time Format: HH:MM:SS; Date Format: YY-MM-DD-dd; Supplier 1: Digi-Key; Manufacturer Part Number: MCP7940MT-I/SN; Stock 1: 3695; Pricing 1: 1=0.58, 25=0.54, 100=0.51 (USD); Mount: Surface Mount; Case/Package: SOIC; Number of Pins: 8; Min Operating Temperature: -40°C; Max Operating Temperature: 85°C; Packaging: Tape and Reel; Package Quantity: 3300; Radiation Hardening: No; ComponentLink1URL: http://ww1.microchip.com/downloads/en/DeviceDoc/25010A.pdf?src-supplier=Avnet; ComponentLink1Description: http://ww1.microchip.com/downloads/en/DeviceDoc/25010A.pdf?src-supplier=Avnet; Supplier Part Number 1: MCP7940MT-I/SNDKR-ND
footprint 8-soic
pins: 1 X1, 2 X2, 3 NC, 4 VSS, 5 SDA, 6 SCL, 7 MFP, 8 VCC

## MCS0630-100MN1
designator L?
10uH ±20% 4A 62mΩ 0630,SMD,7.3x6.6mm Inductors (SMD) RoHS; Manufacturer: PSA(Prosperity Dielectrics); Manufacturer Part No: MCS0630-100MN1; Package: Custom; Value: 10uH
footprint MCS0630-100MN1
pins: 1, 2

## MGFL1608F1R0MT-LF
designator L?, comment 1uH
1uH ±20% 1A 180mΩ 0603 Inductors (SMD) RoHS; Manufacturer: microgate; Inductance: 1uH; Tolerance: ±20%; Rated current: 1A; Package: 0603
footprint IND 0603
pins: 1, 2